# Altium schematic symbol library ECS120185PXTR.SchLib: 1 symbol
Pins are listed as number, name and electrical type; pins without a type are passive.

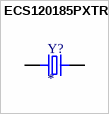
[diagram p0: symbol ECS120185PXTR]

## ECS120185PXTR
designator Y?
CSM-7X Series 12 MHz â–’30 ppm 18 pF -10 to +70 â–‘C Surface Mount Quartz Crystal; MF: ECS International; MP: ECS120185PXTR; SnapEDA_Link: https://www.snapeda.com/parts/ECS120185PXTR/ECS+Inc./view-part/?ref=snap; Package: CSM-7X-3L-5G3X-2 ECS; Value: *; Check_prices: https://www.snapeda.com/parts/ECS120185PXTR/ECS+Inc./view-part/?ref=eda
footprint XTAL_ECS120185PXTR
pins: 1, 2